# Altium integrated library RC.IntLib: 18 symbols
Pins are listed as number, name and electrical type; pins without a type are passive.

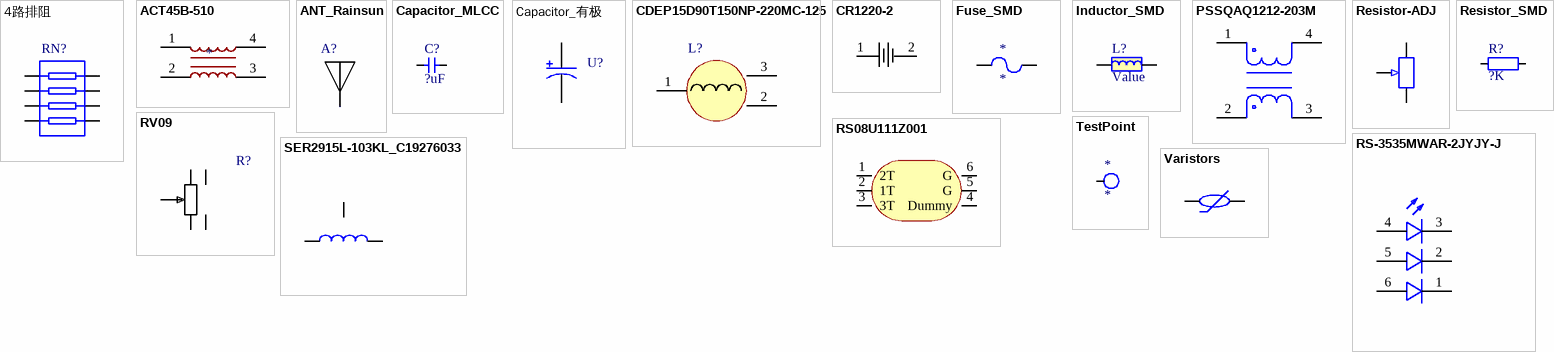
[diagram p0: symbols 4路排阻 to Varistors]

## 4路排阻
designator RN?, comment 4D02WGJ0330TCE  (value not drawn)
阻值:33Ω;精度:±5%;单个元件功率:62.5mW;电阻器数:4;; Manufacturer: UNI-ROYAL(厚声); Name: 33Ω; Add into BOM: yes; Value: 33Ω; Tolerance: ±5%; Power(Watts): 62.5mW; Number of Resistors: 4; Temperature Coefficient: ±200ppm/℃; Symbol: 4D02WGJ0330TCE; Device: 4D02WGJ0330TCE; LCSC Part Name: 33Ω ±5%; Supplier Part: C25501; Manufacturer Part: 4D02WGJ0330TCE; Supplier Footprint: 0402x4; JLCPCB Part Class: 扩展库; Datasheet: https://atta.szlcsc.com/upload/public/pdf/source/20170615/1497510991486.pdf; Supplier: LCSC; Convert to PCB: yes; Number of Pins: 8
footprint RES-ARRAY-SMD_0402-8P-L2.0-W1.0-BL
pins: 1, 2, 3, 4, 5, 6, 7, 8

## ACT45B-510
designator L??
Symbol: ACT45B-510-2P-TL003
footprint IND-SMD_4P-L4.5-W3.2-TL
pins: 1, 2, 3, 4

## ANT_Rainsun
designator A?, comment RAINSUN  (value not drawn)
贴片陶瓷天线
footprint ANT_5120 (5120贴片陶瓷天线)
pins: 1

## Capacitor_MLCC
designator C?, comment ?uF
Capacitor_MLCC
footprint CAP_0402
footprint CAP_1206
footprint GX4018 (插件X2安规电容)
footprint CAP_0603
footprint CAP_0805
pins: 1, 2

## Capacitor_有极
designator U?, comment TE-D  (value not drawn)
Add into BOM: yes; Name: TE-D; Symbol: TE-D; Device: TE-D; LCSC Part Name: TE-D; Supplier Part: C9900024669; Manufacturer Part: TE-D; Supplier Footprint: 钽电容7343; JLCPCB Part Class: 扩展库; Datasheet: https://atta.szlcsc.comnull; Supplier: LCSC; Convert to PCB: yes
footprint CASE-B_3528
footprint CASE-D
footprint CAP-SMD_BD6.3-L6.6-W6.6-LS7.6-RD
footprint CAP-SMD_BD5.0-L5.3-W5.3-LS6.3-FD
footprint CAP-SMD_BD10.0-L10.3-W10.3-LS11.0-R-RD
footprint CAP-TH_BD18.0-P7.50-D1.2-FD
footprint CAP-TH_BD16.0-P7.50-D1.2-FD
footprint CAP-SMD_BD12.5-L13.0-W13.0-LS14.0-FD
pins: 1, 2

## CDEP15D90T150NP-220MC-125
designator L?  (value not drawn)
电感值:22uH;精度:±20%;额定电流:7.5A;; Manufacturer: Sumida(胜美达); Name: 22uH; Add into BOM: yes; Value: 22uH; Tolerance: ±20%; Rated Current: 7.5A; DC Resistance (DCR): 14.5mΩ; Symbol: CDEP15D90T150NP-220MC-125; Device: CDEP15D90T150NP-220MC-125; LCSC Part Name: 22uH ±20% 7.5A 14.5mΩ; Supplier Part: C171581; Manufacturer Part: CDEP15D90T150NP-220MC-125; Supplier Footprint: SMD; JLCPCB Part Class: 扩展库; Datasheet: https://atta.szlcsc.com/upload/public/pdf/source/20180612/C171581_D70A455BA7744A0B5218E235967B6B52.pdf; Supplier: LCSC; Convert to PCB: yes
footprint IND-SMD_3P-L15.5-W15.5-L
pins: 1, 2, 3

## CR1220-2
designator B??  (value not drawn)
Manufacturer: Q&J; Add into BOM: yes; Connector Type: 电池底座; Battery Type: CR1220; Symbol: CR1220-2; Device: CR1220-2; LCSC Part Name: 电池底座 适用电池:CR1220; Supplier Part: C70381; Manufacturer Part: CR1220-2; Supplier Footprint: SMD; JLCPCB Part Class: Extended Part; Datasheet: https://atta.szlcsc.com/upload/public/pdf/source/20160427/1461725216696.pdf; Supplier: LCSC; Convert to PCB: yes; Operating Temperature Range: -
footprint BAT-SMD_CR1220-2
pins: 1, 2

## Fuse_SMD
designator *
footprint RES_1206
footprint FUSE-SMD_L6.1-W2.5
footprint FUSE-TH_FH1-206Z
footprint IND_0805
pins: 1, 2

## Inductor_SMD
designator L?, comment Value
Inductor_SMD
footprint IND_2520 (IND_L_2520)
footprint IND_CD74 (7*7*4贴片电感)
footprint IND_1206
footprint IND_0805
footprint IND-SMD_L2.0-W1.6 (L0806)
footprint IND-SMD_L4.0-W4.0
footprint IND-SMD_L3.0-W3.0_NR3010
footprint IND-SMD_L6.0-W6.0_SMNR6045
footprint IND_0402
pins: 1, 2

## PSSQAQ1212-203M
designator L??  (value not drawn)
Manufacturer: PROD(谱罗德); Add into BOM: yes; Name: PSSQAQ1212-203M; Symbol: PSSQAQ1212-203M; Device: PSSQAQ1212-203M; LCSC Part Name: PSSQAQ1212-203M; Supplier Part: C2962903; Manufacturer Part: PSSQAQ1212-203M; Supplier Footprint: SMD,20x17mm; JLCPCB Part Class: Extended Part; Datasheet: https://atta.szlcsc.com/upload/public/pdf/source/20220120/94B6A6133241FA985CAF33D00B9146AE.pdf; Supplier: LCSC; Convert to PCB: yes
footprint IND-SMD_4P-L20.0-W17.0_PSSQAQ1212-103M
pins: 1, 2, 3, 4

## Resistor-ADJ
designator R??, comment 5kΩ  (value not drawn)
Manufacturer: HDK(北陆电气); Symbol: VG039NCHXTB502; Add into BOM: yes; Tolerance: ±25%; Device: VG039NCHXTB502; LCSC Part Name: 5kΩ ±25%; Supplier Part: C128557; Manufacturer Part: VG039NCHXTB502; Supplier Footprint: SMD; JLCPCB Part Class: Extended Part; Datasheet: https://atta.szlcsc.com/upload/public/pdf/source/20171123/C145162_15114111014461137838.pdf; Supplier: LCSC; Convert to PCB: yes; Value: 5kΩ
footprint RES-ADJ-SMD_3P-L3.8-W3.6-P1.90-BL
footprint RES-ADJ-SMD_JER33X-1-14
pins: 1, 2, 3

## Resistor_SMD
designator R?, comment ?K
Resistor_SMD; Value: 22R
footprint RES_0402
footprint RES_1206
footprint RES_2512 (2512分流器采样电阻)
footprint RES_0805
footprint RES_0201
footprint RES-SMD_L3.6-W2.4 (贴片光敏)
footprint RES_0603
pins: 1, 2

## RS08U111Z001
designator R??, comment 10kΩ  (value not drawn)
Manufacturer: ALPSALPINE(阿尔卑斯阿尔派); Symbol: RS08U111Z001; Add into BOM: yes; Tolerance: ±30%; Device: RS08U111Z001; LCSC Part Name: 10kΩ ±30%; Supplier Part: C202411; Manufacturer Part: RS08U111Z001; Supplier Footprint: SMD; JLCPCB Part Class: Extended Part; Datasheet: https://atta.szlcsc.com/upload/public/pdf/source/20180403/C202411_1E02FBA416091575CFC251DF035433A7.pdf; Supplier: LCSC; Convert to PCB: yes; Value: 10kΩ
footprint RES-ADJ-SMD_L13.2-W3.0_RS08U111Z001
pins: 1 2T, 2 1T, 3 3T, 4 Dummy, 5 G, 6 G

## RS-3535MWAR-2JYJY-J
designator LED??
Symbol: RS-3535MWAR-2JYJY-J
footprint LED-SMD_RS-3535MWAR-2JYJY-J
pins: 1 K, 2 K, 3 K, 4 A, 5 A, 6 A

## RV09
designator R?, comment RV09AF-40-15K-B10K-0C  (value not drawn)
Add into BOM: yes; Symbol: RV09AF-40-15K-B10K-0C; Device: RV09AF-40-15K-B10K-0C; LCSC Part Name: RV09AF-40-15K-B10K-0C; Supplier Part: C5151446; Manufacturer Part: RV09AF-40-15K-B10K-0C; Supplier Footprint: 插件; JLCPCB Part Class: 扩展库; Supplier: LCSC; Convert to PCB: yes
footprint RES-ADJ-TH_RV09
pins: 1, 2, 3, 4, 5

## SER2915L-103KL_C19276033
designator L??
Symbol: SER2915L-103KL_C19276033
footprint IND-SMD_3P-L27.9-W19.8_PQ2614BLA-220K
pins: 1, 2, 3

## TestPoint
designator *
footprint TestPoint_0402
footprint TESTPOINT_BIG
pins: 1

## Varistors
designator R??, comment 压敏电阻  (value not drawn)
Manufacturer: RUILON(瑞隆源); Name: 10D561K; Symbol: 10D561K_C233178; Add into BOM: yes; Allowable Voltage (AC): 350V; Allowable Voltage (DC): 460V; Varistor Voltage: 504V~616V; Clamping Voltage: 920V; Peak Current: 2.5kA; Maximum Energy: 42.3J; Typical Capatitance: 180pF@1kHz; Device: 10D561K_C233178; LCSC Part Name: 插件 920V 42.3焦耳; Supplier Part: C233178; Manufacturer Part: 10D561K; Supplier Footprint: 插件; JLCPCB Part Class: Extended Part; Datasheet: https://atta.szlcsc.com/upload/public/pdf/source/20180619/C233178_276769B37508C8E31010D0BA099A53D6.pdf; Supplier: LCSC; Convert to PCB: yes
footprint RES_4032
pins: 1, 2